# EAGLE library part VD6283TX (library SparkFun-Sensors)
Hybrid filter multispectral sensor with light flicker engine VD6283TX light measurement is fast and accurate thanks to an individual ADC and a readout for each color channel. It employs hybrid color filters with precise responses allowing accurate computation of the correlated color temperature (CCT) and Lux information. The VD6283TX can be used for display brightness management or scene light correction and can extract light flickering frequencies to avoid “banding effects” on videos, or check that they are safe for human eye. Additionally, the VD6283TX is the only sensor able to extract different light flicker waveforms from 100 Hz and 2 kHz, including LED square signals, that can run flicker operations simultaneously with ALS operations.
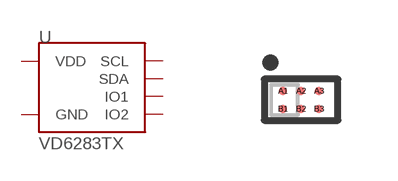
[diagram p68: symbol with the pads of VD6283TX; footprint VD6283TX]

Designator prefix U

## VD6283TX (PROD_ID: IC-16459)  [VD6283TX]
A1  VDD  pwr
A2  SDA
A3  GND  pwr
B1  IO2
B2  IO1
B3  SCL

## Footprint VD6283TX (pad centres in mm)
smd 0.21 x 0.21: A1 -0.45,0.225; A2 0,0.225; A3 0.45,0.225; B1 -0.45,-0.225; B2 0,-0.225; B3 0.45,-0.225